# Altium footprint library PLS1-8.PcbLib: 1 footprints
Each footprint in its own frame and in the unit in brackets; x right, y up, seen from the top. Pads: shape width x height; smd on the part's side, far side on the other; paste and mask are expansions set on the pad; w line width, h text height; cw(c..) or ccw(c..) is an arc to the next point about the centre after c.
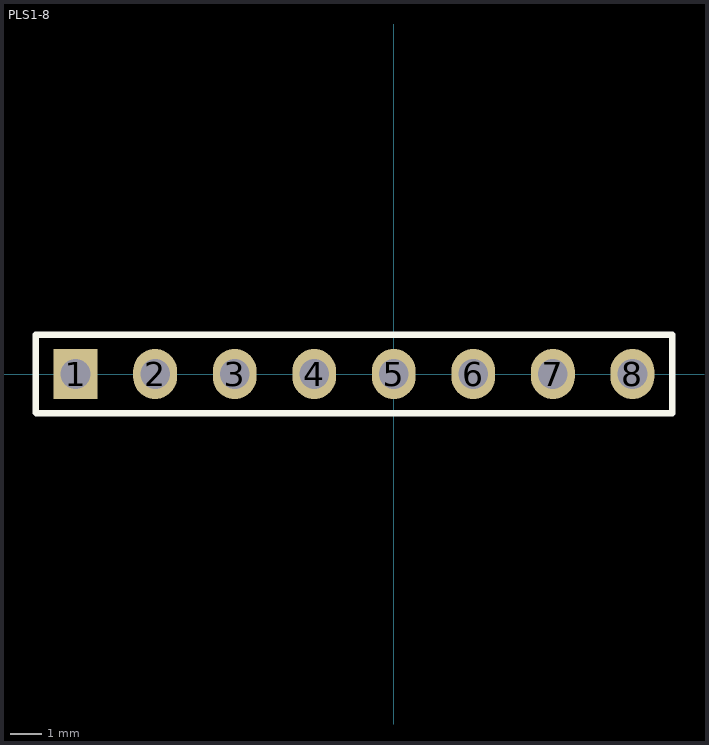
[diagram p0: the footprint, top view; thin cyan lines are the x and y axes]

## PLS1-8 [mm]
pads (8):
  rect 1.4x1.6 hole 0.95: 1(-10.16,0)
  oval 1.4x1.6 hole 0.95: 2(-7.62,0) 3(-5.08,0) 4(-2.54,0) 5(0,0) 6(2.54,0) 7(5.08,0) 8(7.62,0)
Top Overlay:
  lines w0.2: -11.43,-1.24 -11.43,1.25 8.89,1.25 8.89,-1.25 -11.42,-1.25
3D body "Header, Male, 2.54mm, 1x8.STEP": height 8.54, standoff -3, extent -11.43,-1.27 8.89,1.27